# EAGLE library part ARDUINO_NANO (library dpx-Microcontroller)
Arduino Nano V3.0 Module Overview: The Arduino Nano is a small, complete, and breadboard-friendly board based on the ATmega328 (Arduino Nano 3.x) or ATmega168 (Arduino Nano 2.x). It has more or less the same functionality of the Arduino Duemilanove, but in a different package. It lacks only a DC power jack, and works with a Mini-B USB cable instead of a standard one. The Nano was designed and is being produced by Gravitech <http://www.gravitech.us/arna30wiatp.html>. General specifications: Item Value Microcontroller Atmel ATmega168 or ATmega328 Operating Voltage (logic level) 5 V Input Voltage (recommended) 7-12 V Input Voltage (limits) 6-20 V Digital I/O Pins 14 (of which 6 provide PWM output) Analog Input Pins 8 DC Current per I/O Pin 40 mA Flash Memory 16 KB (ATmega168) or 32 KB (ATmega328) of which 2 KB used by bootloader SRAM 1 KB (ATmega168) or 2 KB (ATmega328) EEPROM 512 bytes (ATmega168) or 1 KB (ATmega328) Clock Speed 16 MHz Dimensions (Inches) 0.73" x 1.70" Dimensions (mm) 18mm x 45mm Overall height About 9 mm (not including pins) Weigth 5 g Power: The Arduino Nano can be powered via the Mini-B USB connection, 6-20V unregulated external power supply (pin 30), or 5V regulated external power supply (pin 27). The power source is automatically selected to the highest voltage source. Memory: The ATmega168 has 16 KB of flash memory for storing code (of which 2 KB is used for the bootloader); the ATmega328 has 32 KB, (also with 2 KB used for the bootloader). The ATmega168 has 1 KB of SRAM and 512 bytes of EEPROM (which can be read and written with the EEPROM library); the ATmega328 has 2 KB of SRAM and 1 KB of EEPROM. Input and Output: Each of the 14 digital pins on the Nano can be used as an input or output, using pinMode(), digitalWrite(), and digitalRead() functions. They operate at 5 volts. Each pin can provide or receive a maximum of 40 mA and has an internal pull-up resistor (disconnected by default) of 20-50 kOhms. In addition, some pins have specialized functions. Visit Arduino - ArduinoBoardNano <https://www.arduino.cc/en/Main/ArduinoBoardNano>
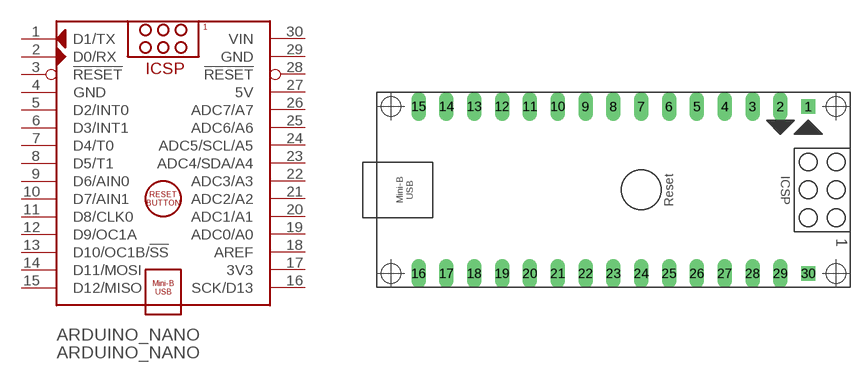
[diagram p0: symbol with the pads of ARDUINO_NANO; footprint ARDUINO_NANO]

Designator prefix ARDUINO_NANO

## ARDUINO_NANO  [ARDUINO_NANO]
1  D1/TX
2  D0/RX
3  !RESET  in
4  GND  pwr
5  D2/INT0
6  D3/INT1
7  D4/T0
8  D5/T1
9  D6/AIN0
10  D7/AIN1
11  D8/CLK0
12  D9/OC1A
13  D10/OC1B/!SS
14  D11/MOSI
15  D12/MISO
16  SCK/D13
17  3V3  out
18  AREF  in
19  ADC0/A0
20  ADC1/A1
21  ADC2/A2
22  ADC3/A3
23  ADC4/SDA/A4
24  ADC5/SCL/A5
25  ADC6/A6
26  ADC7/A7
27  5V  pwr
28  !RESET  in
29  GND  pwr
30  VIN  pwr

## Footprint ARDUINO_NANO (pad centres in mm)
Arduino Nano V3.0 Module The Nano was designed and is being produced by Gravitech <http://www.gravitech.us/arna30wiatp.html>.
drill 0.8 square: 1 15.24,7.62; 30 15.24,-7.62
drill 0.8 long: 2 12.7,7.62; 3 10.16,7.62; 4 7.62,7.62; 5 5.08,7.62; 6 2.54,7.62; 7 0,7.62; 8 -2.54,7.62; 9 -5.08,7.62; 10 -7.62,7.62; 11 -10.16,7.62; 12 -12.7,7.62; 13 -15.24,7.62; 14 -17.78,7.62; 15 -20.32,7.62; 16 -20.32,-7.62; 17 -17.78,-7.62; 18 -15.24,-7.62; 19 -12.7,-7.62; 20 -10.16,-7.62; 21 -7.62,-7.62; 22 -5.08,-7.62; 23 -2.54,-7.62; 24 0,-7.62; 25 2.54,-7.62; 26 5.08,-7.62; 27 7.62,-7.62; 28 10.16,-7.62; 29 12.7,-7.62
hole 1.778 at -22.86,-7.62
hole 1.778 at -22.86,7.62
hole 1.778 at 17.78,7.62
hole 1.778 at 17.78,-7.62